# Altium footprint library SX1308_GTW_e381v02c.PcbLib: 73 footprints (part 5 of 5)
Each footprint in its own frame and in the unit in brackets; x right, y up, seen from the top. Pads: shape width x height; smd on the part's side, far side on the other; paste and mask are expansions set on the pad; w line width, h text height; cw(c..) or ccw(c..) is an arc to the next point about the centre after c.
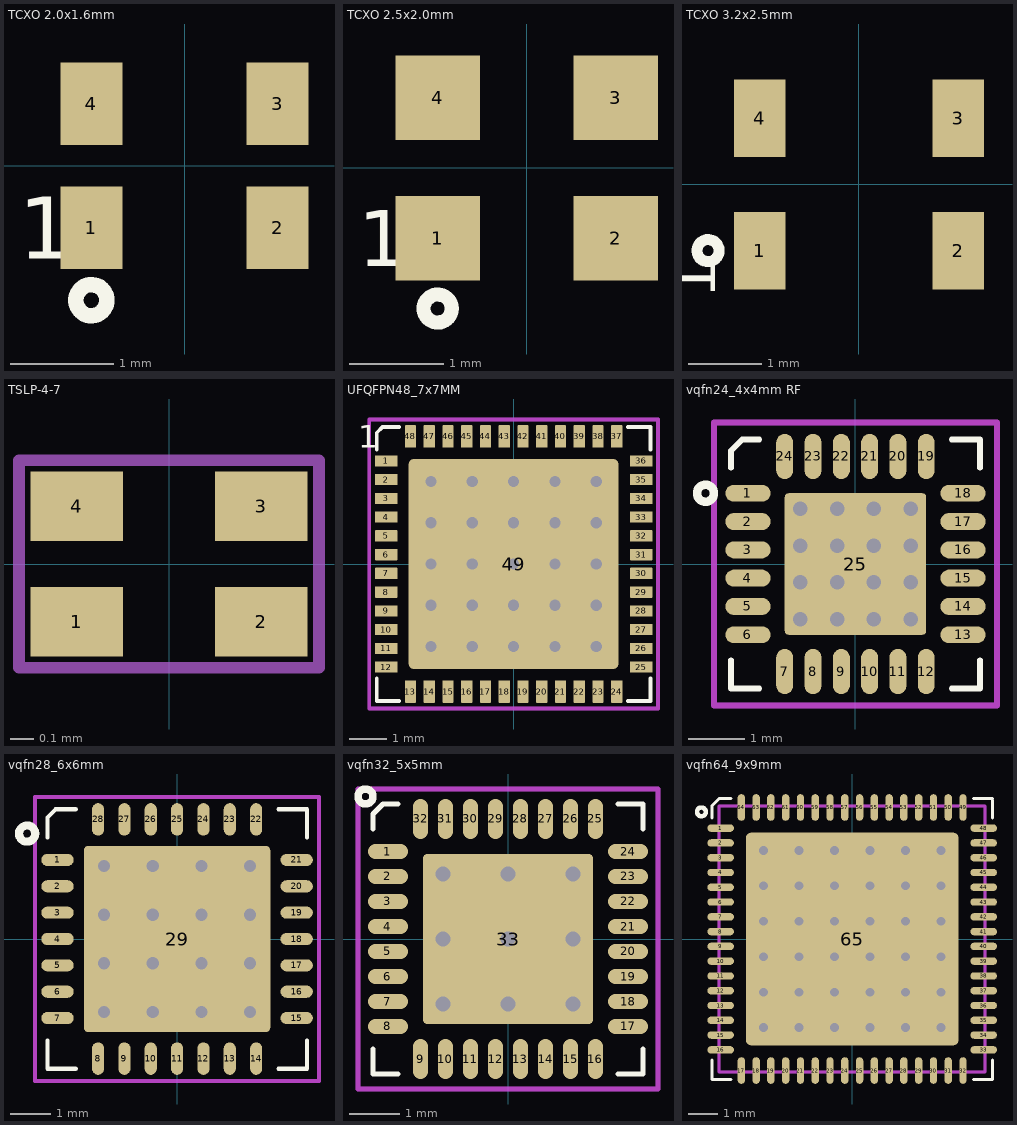
[diagram p4: the footprints below, top view; thin cyan lines are the x and y axes]

## TCXO 2.0x1.6mm [mm] "SMD 2.0x1.6mm for TCXO or VCTCXO"
height 1
pads (4):
  rect 0.6x0.8 smd mask+0.05: 1(-0.9,-0.6) 2(0.9,-0.6) 3(0.9,0.6) 4(-0.9,0.6)
Top Overlay:
  circle w0.15: c-0.9,-1.3 r0.15
  text "1" at -1.6,-0.9 h0.6
3D body: height 1, standoff 0, extent -1,-0.8 1,0.8

## TCXO 2.5x2.0mm [mm] "SMD 2.5x2.0mm for TCXO or VCTCXO"
height 1
pads (4):
  rect 0.9x0.9 smd mask+0.05: 1(-0.95,-0.75) 2(0.95,-0.75) 3(0.95,0.75) 4(-0.95,0.75)
Top Overlay:
  circle w0.15: c-0.95,-1.5 r0.15
  text "1" at -1.8,-1.05 h0.6
3D body: height 1, standoff 0, extent -1.25,-1 1.25,1

## TCXO 3.2x2.5mm [mm] "SMD 3.2x2.5mm for TCXO or VCTCXO"
height 1
pads (4):
  rect 0.7x1.05 smd mask+0.05: 1(-1.35,-0.9) 2(1.35,-0.9) 3(1.35,0.9) 4(-1.35,0.9)
Top Overlay:
  circle w0.15: c-2.05,-0.9 r0.15
  text "1" at -1.95,-1.55 h0.6
3D body: height 1, standoff 0, extent -1.6,-1.25 1.6,1.25

## TSLP-4-7 [mm] "TSLP-4-7 1.2x0.8.mm"
height 0.45
pads (4):
  rect 0.4x0.3 smd paste+0 mask+0.01: 1(-0.4,-0.25) 2(0.4,-0.25) 3(0.4,0.25) 4(-0.4,0.25)
Top Overlay:
  text "." at -0.45,-0.65 h0.5
Mechanical 15:
  lines w0.05: -0.65,-0.45 -0.65,0.45 0.65,0.45 0.65,-0.45 -0.65,-0.45
3D body: height 1, standoff 0, extent -0.6,-0.4 0.6,0.4

## UFQFPN48_7x7MM [mm] "UFQFPN48 Leads, Body 7.0x7.0mm, Pitch 0.50mm"
height 1
pads (49):
  rrect10% 0.6x0.3 smd mask+0.05: 1(-3.4,2.75) 2(-3.4,2.25) 3(-3.4,1.75) 4(-3.4,1.25) 5(-3.4,0.75) 6(-3.4,0.25) 7(-3.4,-0.25) 8(-3.4,-0.75) 9(-3.4,-1.25) 10(-3.4,-1.75) 11(-3.4,-2.25) 12(-3.4,-2.75) 25(3.4,-2.75) 26(3.4,-2.25) 27(3.4,-1.75) 28(3.4,-1.25) 29(3.4,-0.75) 30(3.4,-0.25) 31(3.4,0.25) 32(3.4,0.75) 33(3.4,1.25) 34(3.4,1.75) 35(3.4,2.25) 36(3.4,2.75)
  rrect10% 0.3x0.6 smd mask+0.05: 13(-2.75,-3.4) 14(-2.25,-3.4) 15(-1.75,-3.4) 16(-1.25,-3.4) 17(-0.75,-3.4) 18(-0.25,-3.4) 19(0.25,-3.4) 20(0.75,-3.4) 21(1.25,-3.4) 22(1.75,-3.4) 23(2.25,-3.4) 24(2.75,-3.4) 37(2.75,3.4) 38(2.25,3.4) 39(1.75,3.4) 40(1.25,3.4) 41(0.75,3.4) 42(0.25,3.4) 43(-0.25,3.4) 44(-0.75,3.4) 45(-1.25,3.4) 46(-1.75,3.4) 47(-2.25,3.4) 48(-2.75,3.4)
  rrect5% 5.6x5.6 smd paste-5.2 mask+0.05: 49(0,0)
via 2.2,-2.2 diameter 0.6 hole 0.3
via 2.2,-1.1 diameter 0.6 hole 0.3
via 2.2,0 diameter 0.6 hole 0.3
via 2.2,1.1 diameter 0.6 hole 0.3
via 2.2,2.2 diameter 0.6 hole 0.3
via 1.1,2.2 diameter 0.6 hole 0.3
via 1.1,1.1 diameter 0.6 hole 0.3
via 1.1,0 diameter 0.6 hole 0.3
via 1.1,-1.1 diameter 0.6 hole 0.3
via 1.1,-2.2 diameter 0.6 hole 0.3
via 0,2.2 diameter 0.6 hole 0.3
via 0,1.1 diameter 0.6 hole 0.3
via 0,-2.2 diameter 0.6 hole 0.3
via -1.1,2.2 diameter 0.6 hole 0.3
via -1.1,1.1 diameter 0.6 hole 0.3
via -1.1,0 diameter 0.6 hole 0.3
via -1.1,-1.1 diameter 0.6 hole 0.3
via -1.1,-2.2 diameter 0.6 hole 0.3
via -2.2,-1.1 diameter 0.6 hole 0.3
via -2.2,0 diameter 0.6 hole 0.3
via -2.2,1.1 diameter 0.6 hole 0.3
via -2.2,-2.2 diameter 0.6 hole 0.3
via -2.2,2.2 diameter 0.6 hole 0.3
via 0,-1.1 diameter 0.6 hole 0.3
via 0,0 diameter 0.6 hole 0.3
Top Overlay:
  lines w0.1: -3.65,-3.05 -3.65,-3.65 -3.05,-3.65 ; -3.65,3.05 -3.65,3.5 -3.5,3.65 -3.05,3.65 ; 3.05,-3.65 3.65,-3.65 3.65,-3.05 ; 3.05,3.65 3.65,3.65 3.65,3.05
  text "1" at -4.15,3.1 h0.6
Top Paste:
  region: 0.2,0.2 2,0.2 2,2 0.2,2
  region: -0.2,0.2 -0.2,2 -2,2 -2,0.2
  region: -0.2,-0.2 -0.2,-2 -2,-2 -2,-0.2
  region: 0.2,-0.2 2,-0.2 2,-2 0.2,-2
Mechanical 15 keep-out:
  lines w0.1: -3.85,-3.85 3.85,-3.85 3.85,3.85 -3.85,3.85 -3.85,-3.85
3D body: height 1, standoff 0.05, extent -3.5,-3.5 3.5,3.5

## vqfn24_4x4mm RF [mm] "24 Leads, Body 4.0x4.0mm, Pitch 0.50mm, VQFN24; for RF design"
height 1
pads (25):
  oval 0.8x0.3 smd mask+0.05: 1(-1.9,1.25) 2(-1.9,0.75) 3(-1.9,0.25) 4(-1.9,-0.25) 5(-1.9,-0.75) 6(-1.9,-1.25) 13(1.9,-1.25) 14(1.9,-0.75) 15(1.9,-0.25) 16(1.9,0.25) 17(1.9,0.75) 18(1.9,1.25)
  oval 0.3x0.8 smd mask+0.05: 7(-1.25,-1.9) 8(-0.75,-1.9) 9(-0.25,-1.9) 10(0.25,-1.9) 11(0.75,-1.9) 12(1.25,-1.9) 19(1.25,1.9) 20(0.75,1.9) 21(0.25,1.9) 22(-0.25,1.9) 23(-0.75,1.9) 24(-1.25,1.9)
  rrect5% 2.5x2.5 smd paste-2.5 mask+0.05: 25(0,0)
via 0.325,0.975 diameter 0.5 hole 0.254
via 0.325,0.325 diameter 0.5 hole 0.254
via 0.325,-0.975 diameter 0.5 hole 0.254
via 0.325,-0.325 diameter 0.5 hole 0.254
via -0.325,0.975 diameter 0.5 hole 0.254
via -0.325,0.325 diameter 0.5 hole 0.254
via -0.325,-0.975 diameter 0.5 hole 0.254
via -0.325,-0.325 diameter 0.5 hole 0.254
via -0.975,0.975 diameter 0.5 hole 0.254
via -0.975,0.325 diameter 0.5 hole 0.254
via -0.975,-0.975 diameter 0.5 hole 0.254
via -0.975,-0.325 diameter 0.5 hole 0.254
via 0.975,-0.325 diameter 0.5 hole 0.254
via 0.975,-0.975 diameter 0.5 hole 0.254
via 0.975,0.325 diameter 0.5 hole 0.254
via 0.975,0.975 diameter 0.5 hole 0.254
Top Overlay:
  circle w0.15: c-2.65,1.25 r0.15
  lines w0.1: -2.2,-1.7 -2.2,-2.2 -1.7,-2.2 ; -2.2,1.7 -2.2,2 -2,2.2 -1.7,2.2 ; 1.7,-2.2 2.2,-2.2 2.2,-1.7 ; 1.7,2.2 2.2,2.2 2.2,1.7
Top Paste:
  region: 0.15,-1 1,-1 1,-0.1 0.15,-0.1
  region: 0.15,0.1 0.95,0.1 0.95,1 0.15,1
  region: -0.95,0.1 -0.15,0.1 -0.15,1 -0.95,1
  region: -0.95,-1 -0.15,-1 -0.15,-0.1 -0.95,-0.1
Mechanical 15 keep-out:
  lines w0.1: -2.5,-2.5 -2.5,2.5 2.5,2.5 2.5,-2.5 -2.5,-2.5
3D body: height 1, standoff 0.05, extent -2,-2 2,2

## vqfn28_6x6mm [mm] "28 Leads, Body 6.0x6.0mm, Pitch 0.65mm, VQFN28"
height 1
pads (29):
  oval 0.8x0.3 smd mask+0.05: 1(-2.95,1.95) 2(-2.95,1.3) 3(-2.95,0.65) 4(-2.95,0) 5(-2.95,-0.65) 6(-2.95,-1.3) 7(-2.95,-1.95) 15(2.95,-1.95) 16(2.95,-1.3) 17(2.95,-0.65) 18(2.95,0) 19(2.95,0.65) 20(2.95,1.3) 21(2.95,1.95)
  oval 0.3x0.8 smd mask+0.05: 8(-1.95,-2.95) 9(-1.3,-2.95) 10(-0.65,-2.95) 11(0,-2.95) 12(0.65,-2.95) 13(1.3,-2.95) 14(1.95,-2.95) 22(1.95,2.95) 23(1.3,2.95) 24(0.65,2.95) 25(0,2.95) 26(-0.65,2.95) 27(-1.3,2.95) 28(-1.95,2.95)
  rrect5% 4.6x4.6 smd paste-3.3 mask+0.05: 29(0,0)
via 0.6,-1.8 diameter 0.6 hole 0.3
via 1.8,-0.6 diameter 0.6 hole 0.3
via -1.8,1.8 diameter 0.6 hole 0.3
via -1.8,-0.6 diameter 0.6 hole 0.3
via -1.8,0.6 diameter 0.6 hole 0.3
via 0.6,-0.6 diameter 0.6 hole 0.3
via 1.8,-1.8 diameter 0.6 hole 0.3
via -0.6,-1.8 diameter 0.6 hole 0.3
via -1.8,-1.8 diameter 0.6 hole 0.3
via -0.6,1.8 diameter 0.6 hole 0.3
via -0.6,0.6 diameter 0.6 hole 0.3
via -0.6,-0.6 diameter 0.6 hole 0.3
via 0.6,0.6 diameter 0.6 hole 0.3
via 0.6,1.8 diameter 0.6 hole 0.3
via 1.8,1.8 diameter 0.6 hole 0.3
via 1.8,0.6 diameter 0.6 hole 0.3
Top Overlay:
  circle w0.2: c-3.7,2.6 r0.2
  lines w0.1: -3.2,-2.5 -3.2,-3.2 -2.5,-3.2 ; -3.2,2.5 -3.2,3 -3,3.2 -2.5,3.2 ; 2.5,-3.2 3.2,-3.2 3.2,-2.5 ; 2.5,3.2 3.2,3.2 3.2,2.5
Top Paste:
  region: 0.75,1.75 0.75,0.75 1.75,0.75 1.75,1.75
  region: -0.5,1.75 -0.5,0.75 0.5,0.75 0.5,1.75
  region: -1.75,1.75 -1.75,0.75 -0.75,0.75 -0.75,1.75
  region: 0.75,0.5 0.75,-0.5 1.75,-0.5 1.75,0.5
  region: -0.5,0.5 -0.5,-0.5 0.5,-0.5 0.5,0.5
  region: -1.75,0.5 -1.75,-0.5 -0.75,-0.5 -0.75,0.5
  region: 0.75,-0.75 0.75,-1.75 1.75,-1.75 1.75,-0.75
  region: -0.55,-0.75 -0.55,-1.75 0.45,-1.75 0.45,-0.75
  region: -1.75,-0.75 -1.75,-1.75 -0.75,-1.75 -0.75,-0.75
Mechanical 15 keep-out:
  lines w0.1: -3.5,-3.5 -3.5,3.5 3.5,3.5 3.5,-3.5 -3.5,-3.5
3D body: height 1, standoff 0.05, extent -3,-3 3,3

## vqfn32_5x5mm [mm] "32 Leads, Body 5.0x5.0mm, Pitch 0.50mm, VQFN32"
height 1
pads (33):
  oval 0.8x0.3 smd mask+0.05: 1(-2.4,1.75) 2(-2.4,1.25) 3(-2.4,0.75) 4(-2.4,0.25) 5(-2.4,-0.25) 6(-2.4,-0.75) 7(-2.4,-1.25) 8(-2.4,-1.75) 17(2.4,-1.75) 18(2.4,-1.25) 19(2.4,-0.75) 20(2.4,-0.25) 21(2.4,0.25) 22(2.4,0.75) 23(2.4,1.25) 24(2.4,1.75)
  oval 0.3x0.8 smd mask+0.05: 9(-1.75,-2.4) 10(-1.25,-2.4) 11(-0.75,-2.4) 12(-0.25,-2.4) 13(0.25,-2.4) 14(0.75,-2.4) 15(1.25,-2.4) 16(1.75,-2.4) 25(1.75,2.4) 26(1.25,2.4) 27(0.75,2.4) 28(0.25,2.4) 29(-0.25,2.4) 30(-0.75,2.4) 31(-1.25,2.4) 32(-1.75,2.4)
  rrect5% 3.4x3.4 smd paste-3.2 mask+0.05: 33(0,0)
via 0,0 diameter 0.6 hole 0.3
via -1.3,1.3 diameter 0.6 hole 0.3
via 1.3,1.3 diameter 0.6 hole 0.3
via -1.3,-1.3 diameter 0.6 hole 0.3
via 1.3,-1.3 diameter 0.6 hole 0.3
via -1.3,0 diameter 0.6 hole 0.3
via 1.3,0 diameter 0.6 hole 0.3
via 0,1.3 diameter 0.6 hole 0.3
via 0,-1.3 diameter 0.6 hole 0.3
Top Overlay:
  circle w0.15: c-2.85,2.85 r0.15
  lines w0.1: -2.7,-2.2 -2.7,-2.7 -2.2,-2.7 ; -2.7,2.2 -2.7,2.5 -2.5,2.7 -2.2,2.7 ; 2.2,-2.7 2.7,-2.7 2.7,-2.2 ; 2.2,2.7 2.7,2.7 2.7,2.2
Top Paste:
  region: -1.3,1.3 -1.3,0.2 -0.2,0.2 -0.2,1.3
  region: -0.2,-0.2 -0.2,-1.3 -1.3,-1.3 -1.3,-0.2
  region: 0.2,-0.2 1.3,-0.2 1.3,-1.3 0.2,-1.3
  region: 0.2,1.3 1.3,1.3 1.3,0.2 0.2,0.2
Mechanical 15 keep-out:
  lines w0.1: -3,-3 3,-3 3,3 -3,3 -3,-3
3D body: height 1, standoff 0.05, extent -2.5,-2.5 2.5,2.5

## vqfn64_9x9mm [mm] "VQFN64 Leads, Body 9.0x9.0mm, Pitch 0.50mm, VQFN64"
height 1
pads (65):
  oval 0.9x0.25 smd mask+0.05: 1(-4.45,3.75) 2(-4.45,3.25) 3(-4.45,2.75) 4(-4.45,2.25) 5(-4.45,1.75) 6(-4.45,1.25) 7(-4.45,0.75) 8(-4.45,0.25) 9(-4.45,-0.25) 10(-4.45,-0.75) 11(-4.45,-1.25) 12(-4.45,-1.75) 13(-4.45,-2.25) 14(-4.45,-2.75) 15(-4.45,-3.25) 16(-4.45,-3.75) 33(4.45,-3.75) 34(4.45,-3.25) 35(4.45,-2.75) 36(4.45,-2.25) 37(4.45,-1.75) 38(4.45,-1.25) 39(4.45,-0.75) 40(4.45,-0.25) 41(4.45,0.25) 42(4.45,0.75) 43(4.45,1.25) 44(4.45,1.75) 45(4.45,2.25) 46(4.45,2.75) 47(4.45,3.25) 48(4.45,3.75)
  oval 0.25x0.9 smd mask+0.05: 17(-3.75,-4.45) 18(-3.25,-4.45) 19(-2.75,-4.45) 20(-2.25,-4.45) 21(-1.75,-4.45) 22(-1.25,-4.45) 23(-0.75,-4.45) 24(-0.25,-4.45) 25(0.25,-4.45) 26(0.75,-4.45) 27(1.25,-4.45) 28(1.75,-4.45) 29(2.25,-4.45) 30(2.75,-4.45) 31(3.25,-4.45) 32(3.75,-4.45) 49(3.75,4.45) 50(3.25,4.45) 51(2.75,4.45) 52(2.25,4.45) 53(1.75,4.45) 54(1.25,4.45) 55(0.75,4.45) 56(0.25,4.45) 57(-0.25,4.45) 58(-0.75,4.45) 59(-1.25,4.45) 60(-1.75,4.45) 61(-2.25,4.45) 62(-2.75,4.45) 63(-3.25,4.45) 64(-3.75,4.45)
  rrect5% 7.2x7.2 smd paste-6.6 mask+0.05: 65(0,0)
via 3,3 diameter 0.6 hole 0.3
via 3,1.8 diameter 0.6 hole 0.3
via 3,0.6 diameter 0.6 hole 0.3
via 3,-0.6 diameter 0.6 hole 0.3
via 3,-1.8 diameter 0.6 hole 0.3
via 3,-3 diameter 0.6 hole 0.3
via 1.8,-3 diameter 0.6 hole 0.3
via 1.8,-1.8 diameter 0.6 hole 0.3
via 1.8,-0.6 diameter 0.6 hole 0.3
via 1.8,0.6 diameter 0.6 hole 0.3
via 0.6,1.8 diameter 0.6 hole 0.3
via 0.6,0.6 diameter 0.6 hole 0.3
via 0.6,-0.6 diameter 0.6 hole 0.3
via 0.6,-1.8 diameter 0.6 hole 0.3
via 0.6,-3 diameter 0.6 hole 0.3
via -0.6,-3 diameter 0.6 hole 0.3
via -0.6,-1.8 diameter 0.6 hole 0.3
via -0.6,-0.6 diameter 0.6 hole 0.3
via 1.8,3 diameter 0.6 hole 0.3
via 0.6,3 diameter 0.6 hole 0.3
via -0.6,3 diameter 0.6 hole 0.3
via 1.8,1.8 diameter 0.6 hole 0.3
via -1.8,3 diameter 0.6 hole 0.3
via -1.8,0.6 diameter 0.6 hole 0.3
via -1.8,-0.6 diameter 0.6 hole 0.3
via -1.8,-1.8 diameter 0.6 hole 0.3
via -1.8,-3 diameter 0.6 hole 0.3
via -1.8,1.8 diameter 0.6 hole 0.3
via -0.6,1.8 diameter 0.6 hole 0.3
via -0.6,0.6 diameter 0.6 hole 0.3
via -3,0.6 diameter 0.6 hole 0.3
via -3,1.8 diameter 0.6 hole 0.3
via -3,3 diameter 0.6 hole 0.3
via -3,-1.8 diameter 0.6 hole 0.3
via -3,-3 diameter 0.6 hole 0.3
via -3,-0.6 diameter 0.6 hole 0.3
Top Overlay:
  circle w0.15: c-5.1,4.3 r0.15
  lines w0.1: -4.75,-4.1 -4.75,-4.75 -4.1,-4.75 ; -4.75,4.1 -4.75,4.5 -4.5,4.75 -4.1,4.75 ; 4.1,-4.75 4.75,-4.75 4.75,-4.1 ; 4.1,4.75 4.75,4.75 ; 4.75,4.1 4.75,4.7
Top Paste:
  region: -2.9,-1.9 -2.9,-2.9 -1.9,-2.9 -1.9,-1.9
  region: -2.9,-0.7 -2.9,-1.7 -1.9,-1.7 -1.9,-0.7
  region: -2.9,0.5 -2.9,-0.5 -1.9,-0.5 -1.9,0.5
  region: -2.9,2.9 -2.9,1.9 -1.9,1.9 -1.9,2.9
  region: -2.9,1.7 -2.9,0.7 -1.9,0.7 -1.9,1.7
  region: -1.7,1.7 -1.7,0.7 -0.7,0.7 -0.7,1.7
  region: -1.7,2.9 -1.7,1.9 -0.7,1.9 -0.7,2.9
  region: -1.7,0.5 -1.7,-0.5 -0.7,-0.5 -0.7,0.5
  region: -1.7,-0.7 -1.7,-1.7 -0.7,-1.7 -0.7,-0.7
  region: -1.7,-1.9 -1.7,-2.9 -0.7,-2.9 -0.7,-1.9
  region: -0.5,1.7 -0.5,0.7 0.5,0.7 0.5,1.7
  region: -0.5,2.9 -0.5,1.9 0.5,1.9 0.5,2.9
  region: -0.5,0.5 -0.5,-0.5 0.5,-0.5 0.5,0.5
  region: -0.5,-0.7 -0.5,-1.7 0.5,-1.7 0.5,-0.7
  region: -0.5,-1.9 -0.5,-2.9 0.5,-2.9 0.5,-1.9
  region: 0.7,1.7 0.7,0.7 1.7,0.7 1.7,1.7
  region: 0.7,2.9 0.7,1.9 1.7,1.9 1.7,2.9
  region: 0.7,0.5 0.7,-0.5 1.7,-0.5 1.7,0.5
  region: 0.7,-0.7 0.7,-1.7 1.7,-1.7 1.7,-0.7
  region: 0.7,-1.9 0.7,-2.9 1.7,-2.9 1.7,-1.9
  region: 1.9,1.7 1.9,0.7 2.9,0.7 2.9,1.7
  region: 1.9,2.9 1.9,1.9 2.9,1.9 2.9,2.9
  region: 1.9,0.5 1.9,-0.5 2.9,-0.5 2.9,0.5
  region: 1.9,-0.7 1.9,-1.7 2.9,-1.7 2.9,-0.7
  region: 1.9,-1.9 1.9,-2.9 2.9,-2.9 2.9,-1.9
Mechanical 15 keep-out:
  lines w0.1: -4.5,-4.5 4.5,-4.5 4.5,4.5 -4.5,4.5 -4.5,-4.5
3D body: height 1, standoff 0.05, extent -4.5,-4.5 4.5,4.5